# Altium footprint library PcbLib1.PcbLib: 12 footprints
Each footprint in its own frame and in the unit in brackets; x right, y up, seen from the top. Pads: shape width x height; smd on the part's side, far side on the other; paste and mask are expansions set on the pad; w line width, h text height; cw(c..) or ccw(c..) is an arc to the next point about the centre after c.
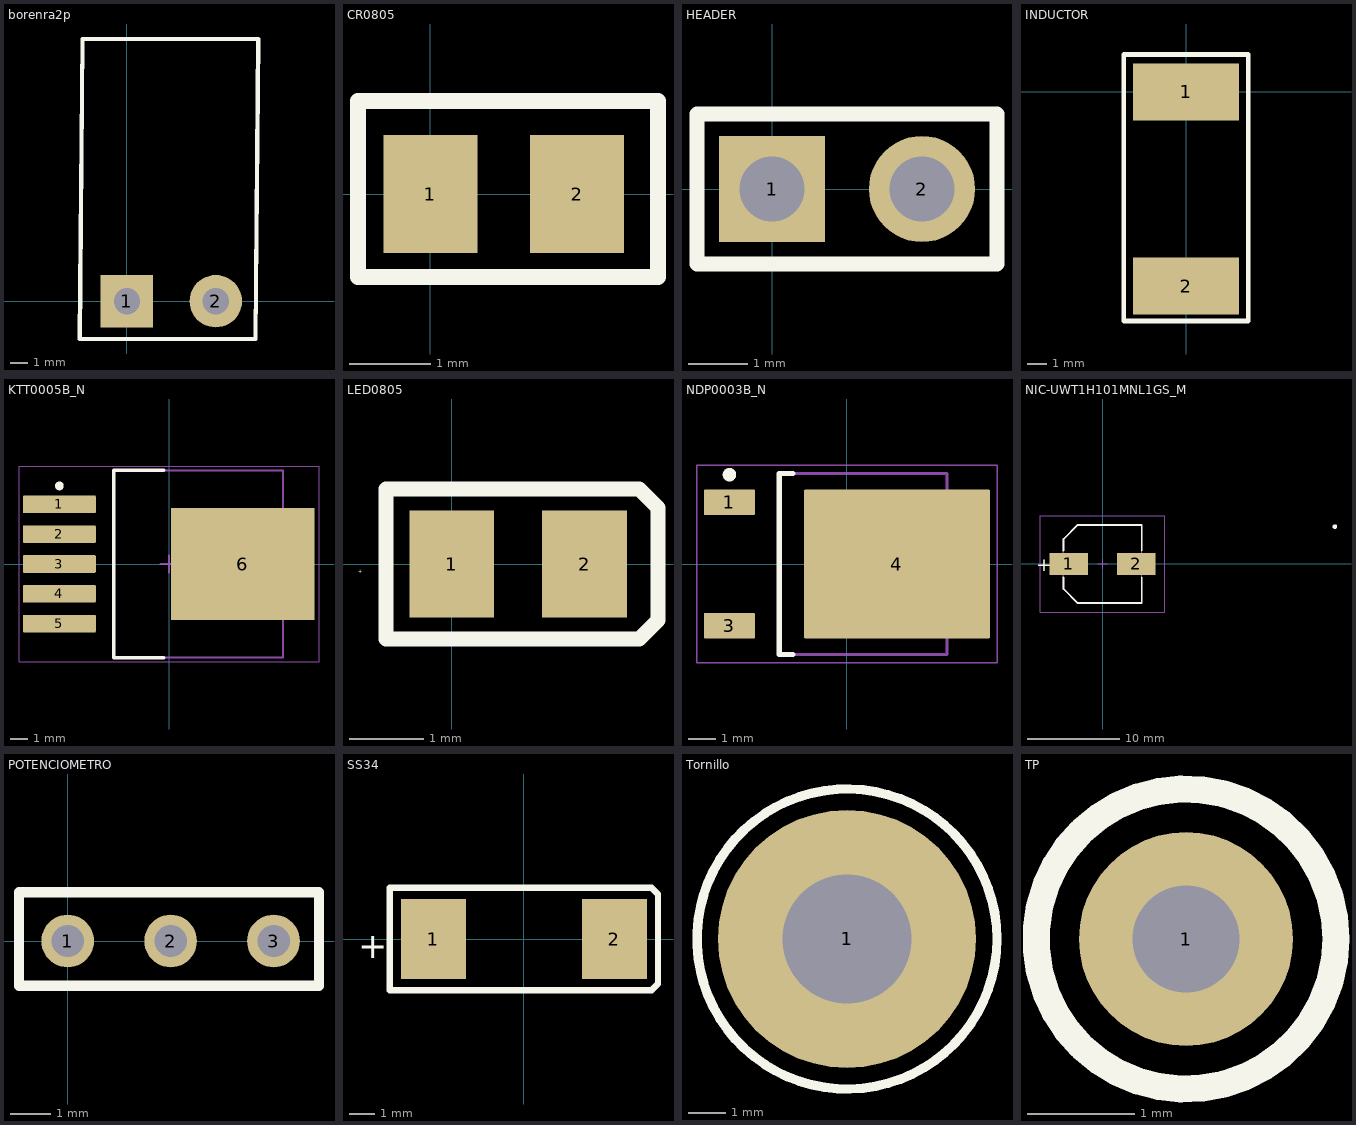
[diagram p0: the footprints below, top view; thin cyan lines are the x and y axes]

## borenra2p [mm]
pads (2):
  rect 3x3 / inner round 1.524 / far side round 1.524 hole 1.5: 1(0,0)
  round 3 / inner round 1.524 / far side round 1.524 hole 1.5: 2(5.08,0)
Top Overlay:
  lines w0.254: -2.683,-2.159 -2.538,14.986 7.495,14.986 7.35,-2.159 -2.683,-2.159

## CR0805 [mm] "Resistencia de superficie en encapsulado 0805 de 1Kohm"
pads (2):
  rect 1.15x1.45 smd: 1(0,0) 2(1.8,0)
Top Overlay:
  lines w0.2: -0.889,-1.016 2.794,-1.016 2.794,1.143 -0.635,1.143 -0.889,1.143 -0.889,-1.016
3D body "CircuitWorks-RESISTOR 0805.STEP": height 0.43, standoff -0.03, extent -0.111,-0.63 1.889,0.63

## HEADER [mm]
pads (2):
  rect 1.8x1.8 / inner round 1.524 / far side round 1.524 hole 1.1: 1(0,0)
  round 1.8 / inner round 1.524 / far side round 1.524 hole 1.1: 2(2.54,0)
Top Overlay:
  lines w0.254: -1.27,-1.27 -1.27,1.27 3.81,1.27 3.81,-1.27 -1.27,-1.27

## INDUCTOR [mm] "Inductor"
pads (2):
  rect 5.4x2.9 smd: 1(0,0) 2(0,-9.9)
Top Overlay:
  lines w0.254: -3.175,-11.684 3.175,-11.684 3.175,1.905 -3.175,1.905 -3.175,-11.684

## KTT0005B_N [mm] "DPAK, 5-Leads, Body 10.65x9.65mm, Pitch 1.7mm, IPC Medium Density"
height 4.83
pads (6):
  rrect10% 4.15x1 smd: 1(-6.25,3.4) 2(-6.25,1.7) 3(-6.25,0) 4(-6.25,-1.7) 5(-6.25,-3.4)
  rrect2% 8.2x6.4 smd: 6(4.2,0)
Top Overlay:
  circle w0.25: c-6.25,4.45 r0.125
  lines w0.2: -0.3,-5.35 -3.15,-5.35 -3.15,5.35 -0.3,5.35
Mechanical 1:
  text ".Designator" at -1.905,-0.508 h1.3
Mechanical 13:
  lines w0.1: -3.15,-5.325 6.5,-5.325 6.5,5.325 -3.15,5.325 -3.15,-5.325
Mechanical 15:
  lines w0.05: -8.55,-5.575 8.55,-5.575 8.55,5.575 -8.55,5.575 -8.55,-5.575
  lines w0.1: -0.5,0 0.5,0 ; 0,-0.5 0,0.5
3D body: height 4.83, standoff 0, extent -3.15,-5.325 6.5,5.325

## LED0805 [mm]
pads (2):
  rect 1.15x1.45 smd: 1(0,0) 2(1.8,0)
Top Overlay:
  lines w0.2: -0.889,-1.016 -0.889,1.016 -0.254,1.016 2.54,1.016 2.794,0.762 2.794,-0.762 2.54,-1.016 -0.889,-1.016
  text "+" at -1.27,-0.127 h0.05
3D body "User Library-led805.step": height 1.1, standoff -0.01, extent -0.232,-0.635 1.8,0.635

## NDP0003B_N [mm] "D-PAK, 4-Leads, Body 6.1x6.6mm, Pitch 2.29mm, Lead Span 9.7mm, IPC Medium Density"
height 2.38
pads (3):
  rrect11% 1.9x0.95 smd: 1(-4.35,2.28) 3(-4.35,-2.28)
  rrect2% 6.9x5.5 smd: 4(1.85,0)
Top Overlay:
  circle w0.25: c-4.35,3.305 r0.125
  lines w0.2: -2,-3.35 -2.5,-3.35 -2.5,3.35 -2,3.35
Mechanical 1:
  text ".Designator" at -1.524,-0.508 h1.02
Mechanical 13:
  lines w0.1: -2.5,-3.35 3.7,-3.35 3.7,3.35 -2.5,3.35 -2.5,-3.35
Mechanical 15:
  lines w0.05: -5.55,-3.65 5.55,-3.65 5.55,3.65 -5.55,3.65 -5.55,-3.65
  lines w0.1: -0.5,0 0.5,0 ; 0,-0.5 0,0.5
3D body: height 2.38, standoff 0, extent -2.499,-3.349 3.699,3.349

## NIC-UWT1H101MNL1GS_M [mm] "Aluminum Electrolytic Capacitor, Body 8.5x8.5mm, IPC Low Density"
height 10.8
pads (2):
  rect 4.2x2.35 smd: 1(-3.675,0) 2(3.675,0)
Top Overlay:
  circle w0.25: c25.246,4.069 r0.125
  lines w0.2: -4.25,-1.475 -4.25,-2.713 -2.712,-4.25 4.25,-4.25 4.25,-1.475 ; -4.25,1.475 -4.25,2.712 -2.712,4.25 4.25,4.25 4.25,1.475
  text "+" at -7.239,-0.762 h1.52
Mechanical 13:
  lines w0.1: -4.25,-2.713 -2.712,-4.25 4.25,-4.25 4.25,4.25 -2.712,4.25 -4.25,2.712 -4.25,-2.713
Mechanical 15:
  lines w0.05: -6.75,-5.25 -6.75,5.25 6.75,5.25 6.75,-5.25 -6.75,-5.25
  lines w0.1: -0.5,0 0.5,0 ; 0,-0.5 0,0.5
3D body "CAPAE9383X108M.step": height 10.8, standoff 0, extent -4.65,-4.25 4.65,4.25

## POTENCIOMETRO [mm]
pads (3):
  round 1.3 hole 0.8: 1(0,0) 2(2.54,0) 3(5.08,0)
Top Overlay:
  lines w0.254: -1.2,-1.1 6.2,-1.1 6.2,1.2 -1.2,1.2 -1.2,-1.1

## SS34 [mm] "SS34"
pads (2):
  rect 2.6x3.2 smd: 1(-3.6,0) 2(3.6,0)
Top Overlay:
  lines w0.254: -5.334,-2.032 -2.667,-2.032 2.667,-2.032 5.08,-2.032 5.334,-1.778 5.334,-0.984 5.334,0.984 5.334,1.778 5.08,2.032 -5.334,2.032 -5.334,-2.032
  text "+" at -6.604,-0.762 h1.02
3D body "ss34.stp": height 2.53, standoff 0, extent -4.038,-2.95 4.038,2.95

## Tornillo [mm] "Tornillo"
height 0.076
pads (1):
  round 7 hole 3.5: 1(96.647,-114.681)
Top Overlay:
  circle w0.254: c96.647,-114.681 r4.066

## TP [mm] "test point"
height 0.076
pads (1):
  round 2 hole 1: 1(96.647,-114.681)
Top Overlay:
  circle w0.254: c96.647,-114.681 r1.403